# EAGLE library part A-MEGA_ISP (library digital-toy)
Arduino/Genuino Mega with ISP connector
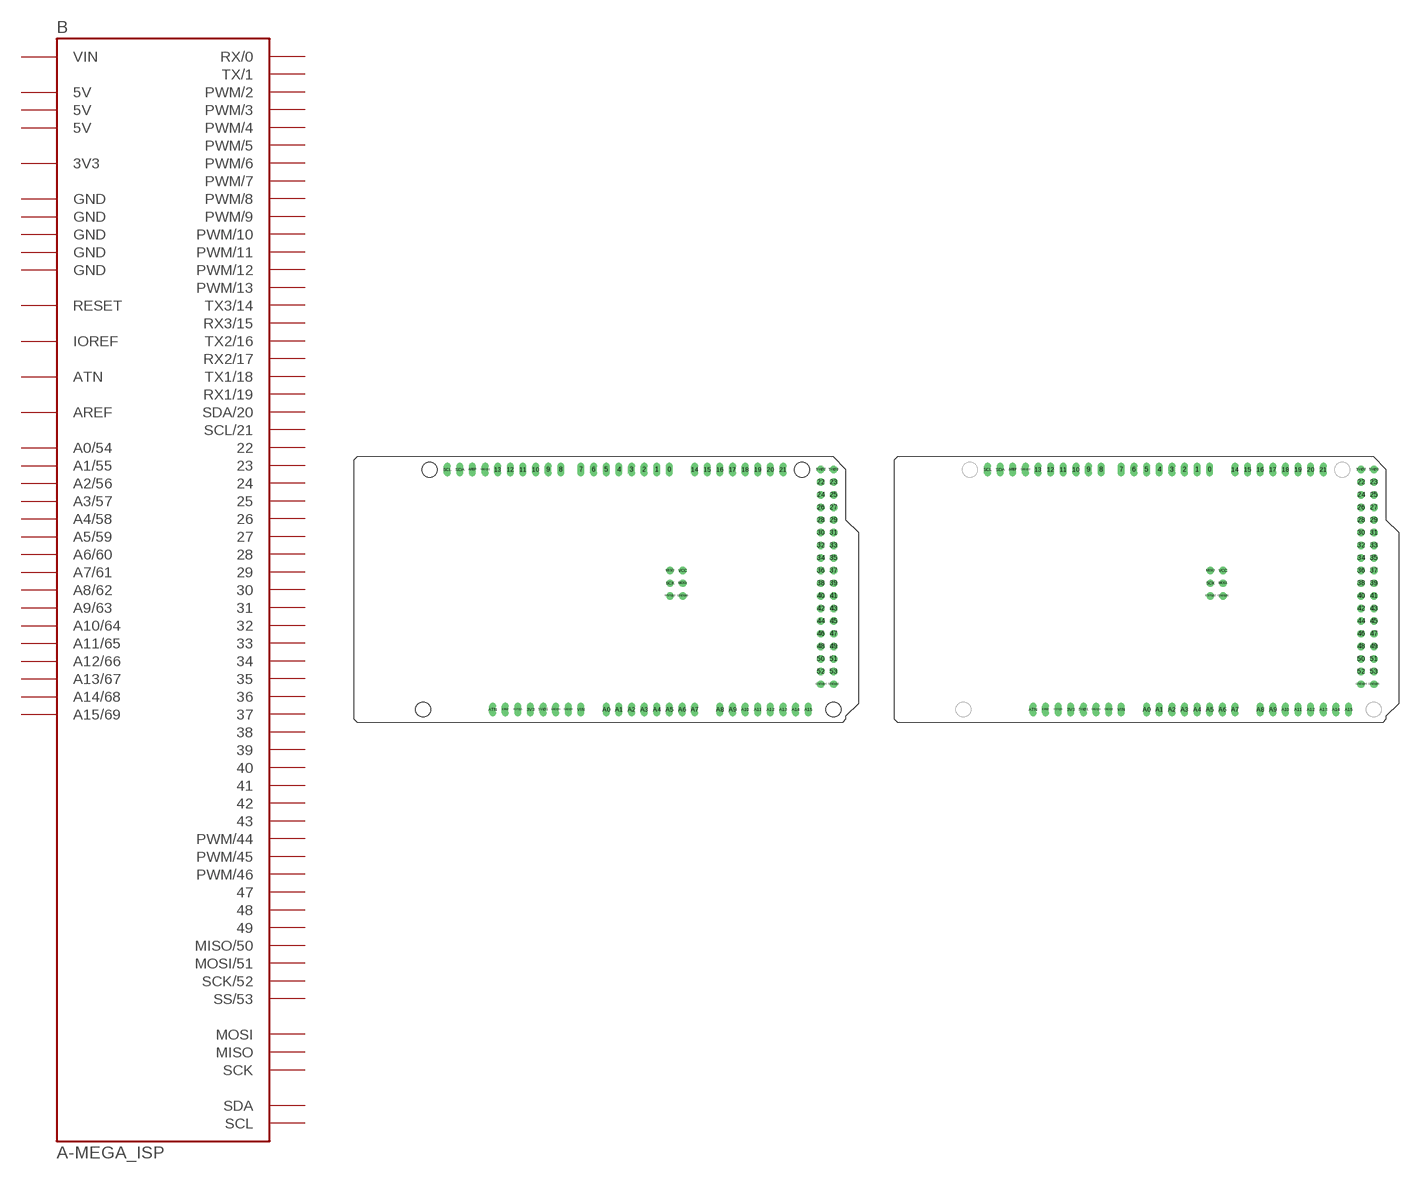
[diagram p43: symbol with the pads of A-MEGA-ISP; footprints A-MEGA-ISP, A-MEGA-ISP_TP]

Designator prefix B

## A-MEGA_ISP  [A-MEGA-ISP]
0  RX/0
1  TX/1
2  PWM/2
3  PWM/3
3V3  3V3  pwr
4  PWM/4
5  PWM/5
5V@1  5V  pwr
5V@2  5V  pwr
5V@3  5V  pwr
6  PWM/6
7  PWM/7
8  PWM/8
9  PWM/9
10  PWM/10
11  PWM/11
12  PWM/12
13  PWM/13
14  TX3/14
15  RX3/15
16  TX2/16
17  RX2/17
18  TX1/18
19  RX1/19
20  SDA/20
21  SCL/21
22  22
23  23
24  24
25  25
26  26
27  27
28  28
29  29
30  30
31  31
32  32
33  33
34  34
35  35
36  36
37  37
38  38
39  39
40  40
41  41
42  42
43  43
44  PWM/44
45  PWM/45
46  PWM/46
47  47
48  48
49  49
50  MISO/50
51  MOSI/51
52  SCK/52
53  SS/53
A0  A0/54
A1  A1/55
A2  A2/56
A3  A3/57
A4  A4/58
A5  A5/59
A6  A6/60
A7  A7/61
A8  A8/62
A9  A9/63
A10  A10/64
A11  A11/65
A12  A12/66
A13  A13/67
A14  A14/68
A15  A15/69
AREF  AREF  pwr
ATN  ATN
GND@1  GND  pwr
GND@2  GND  pwr
GND@3  GND  pwr
GND@4  GND  pwr
GND@5  GND  pwr
IOREF  IOREF  pwr
MISO  MISO
MOSI  MOSI
RST@1  RESET
SCK  SCK
SCL  SCL
SDA  SDA
VIN  VIN  pwr

## A-MEGA_ISP-TP  [A-MEGA-ISP_TP]
Pads as for A-MEGA-ISP

## Footprint A-MEGA-ISP (pad centres in mm)
20 Dimension
drill 0.9 pad 1.2 long: 0 63.5,50.8; 1 60.96,50.8; 2 58.42,50.8; 3 55.88,50.8; 3V3 35.56,2.54; 4 53.34,50.8; 5 50.8,50.8; 5V@1 38.1,2.54; 6 48.26,50.8; 7 45.72,50.8; 8 41.656,50.8; 9 39.116,50.8; 10 36.576,50.8; 11 34.036,50.8; 12 31.496,50.8; 13 28.956,50.8; 14 68.58,50.8; 15 71.12,50.8; 16 73.66,50.8; 17 76.2,50.8; 18 78.74,50.8; 19 81.28,50.8; 20 83.82,50.8; 21 86.36,50.8; A0 50.8,2.54; A1 53.34,2.54; A2 55.88,2.54; A3 58.42,2.54; A4 60.96,2.54; A5 63.5,2.54; A6 66.04,2.54; A7 68.58,2.54; A8 73.66,2.54; A9 76.2,2.54; A10 78.74,2.54; A11 81.28,2.54; A12 83.82,2.54; A13 86.36,2.54; A14 88.9,2.54; A15 91.44,2.54; AREF 23.876,50.8; ATN 27.94,2.54; GND@1 40.64,2.54; GND@2 43.18,2.54; GND@3 26.416,50.8; IOREF 30.48,2.54; RST@1 33.02,2.54; SCL 18.796,50.8; SDA 21.336,50.8; VIN 45.72,2.54
drill 0.9 pad 1.5: 5V@2 93.98,50.8; 5V@3 96.52,50.8; 22 93.98,48.26; 23 96.52,48.26; 24 93.98,45.72; 25 96.52,45.72; 26 93.98,43.18; 27 96.52,43.18; 28 93.98,40.64; 29 96.52,40.64; 30 93.98,38.1; 31 96.52,38.1; 32 93.98,35.56; 33 96.52,35.56; 34 93.98,33.02; 35 96.52,33.02; 36 93.98,30.48; 37 96.52,30.48; 38 93.98,27.94; 39 96.52,27.94; 40 93.98,25.4; 41 96.52,25.4; 42 93.98,22.86; 43 96.52,22.86; 44 93.98,20.32; 45 96.52,20.32; 46 93.98,17.78; 47 96.52,17.78; 48 93.98,15.24; 49 96.52,15.24; 50 93.98,12.7; 51 96.52,12.7; 52 93.98,10.16; 53 96.52,10.16; GND@4 93.98,7.62; GND@5 96.52,7.62; GND@6 66.167,25.4; MISO 63.627,30.48; MOSI 66.167,27.94; RST@2 63.627,25.4; SCK 63.627,27.94; VCC 66.167,30.48
hole 3 at 90.17,50.8
hole 3 at 96.52,2.54
hole 3 at 15.24,50.8
hole 3 at 13.97,2.54

## Footprint A-MEGA-ISP_TP (pad centres in mm)
21 tPlace
drill 0.9 pad 1.2 long: 0 63.5,50.8; 1 60.96,50.8; 2 58.42,50.8; 3 55.88,50.8; 3V3 35.56,2.54; 4 53.34,50.8; 5 50.8,50.8; 5V@1 38.1,2.54; 6 48.26,50.8; 7 45.72,50.8; 8 41.656,50.8; 9 39.116,50.8; 10 36.576,50.8; 11 34.036,50.8; 12 31.496,50.8; 13 28.956,50.8; 14 68.58,50.8; 15 71.12,50.8; 16 73.66,50.8; 17 76.2,50.8; 18 78.74,50.8; 19 81.28,50.8; 20 83.82,50.8; 21 86.36,50.8; A0 50.8,2.54; A1 53.34,2.54; A2 55.88,2.54; A3 58.42,2.54; A4 60.96,2.54; A5 63.5,2.54; A6 66.04,2.54; A7 68.58,2.54; A8 73.66,2.54; A9 76.2,2.54; A10 78.74,2.54; A11 81.28,2.54; A12 83.82,2.54; A13 86.36,2.54; A14 88.9,2.54; A15 91.44,2.54; AREF 23.876,50.8; ATN 27.94,2.54; GND@1 40.64,2.54; GND@2 43.18,2.54; GND@3 26.416,50.8; IOREF 30.48,2.54; RST@1 33.02,2.54; SCL 18.796,50.8; SDA 21.336,50.8; VIN 45.72,2.54
drill 0.9 pad 1.5: 5V@2 93.98,50.8; 5V@3 96.52,50.8; 22 93.98,48.26; 23 96.52,48.26; 24 93.98,45.72; 25 96.52,45.72; 26 93.98,43.18; 27 96.52,43.18; 28 93.98,40.64; 29 96.52,40.64; 30 93.98,38.1; 31 96.52,38.1; 32 93.98,35.56; 33 96.52,35.56; 34 93.98,33.02; 35 96.52,33.02; 36 93.98,30.48; 37 96.52,30.48; 38 93.98,27.94; 39 96.52,27.94; 40 93.98,25.4; 41 96.52,25.4; 42 93.98,22.86; 43 96.52,22.86; 44 93.98,20.32; 45 96.52,20.32; 46 93.98,17.78; 47 96.52,17.78; 48 93.98,15.24; 49 96.52,15.24; 50 93.98,12.7; 51 96.52,12.7; 52 93.98,10.16; 53 96.52,10.16; GND@4 93.98,7.62; GND@5 96.52,7.62; GND@6 66.167,25.4; MISO 63.627,30.48; MOSI 66.167,27.94; RST@2 63.627,25.4; SCK 63.627,27.94; VCC 66.167,30.48